# EAGLE library part POT_STEREO (library bao)
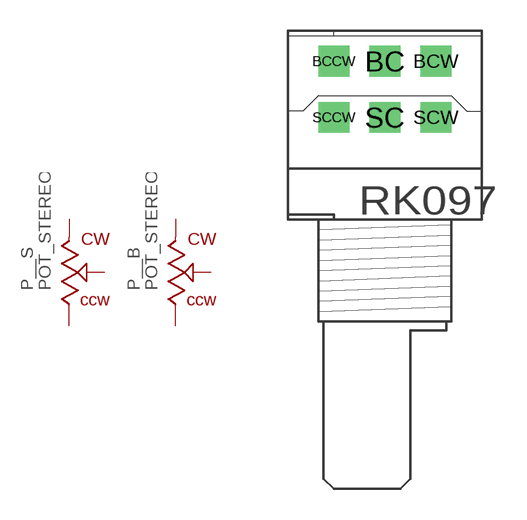
[diagram p4: symbol with the pads of POT_ALPS_RK097_ST_CENTERED; footprint POT_ALPS_RK097_ST_CENTERED]

Designator prefix P_; gates _S=POT _B=POT

## POT_STEREOST_H_B50K (NHPREF: 112; POPULATE: TRUE; VALUE: B50k)  [POT_ALPS_RK097_ST_CENTERED]
BC  _B:C  pas
BCCW  _B:CCW  pas
BCW  _B:CW  pas
SC  _S:C  pas
SCCW  _S:CCW  pas
SCW  _S:CW  pas

## POT_STEREOST_H_A50K (NHPREF: 110; POPULATE: TRUE; VALUE: A50k)  [POT_ALPS_RK097_ST_CENTERED]
Pads as for POT_ALPS_RK097_ST_CENTERED

## Footprint POT_ALPS_RK097_ST_CENTERED (pad centres in mm)
SCCW - SC - SCW -> Shaft side BCCW - BC - BCW -> Base side
drill 1 pad 1.422 square: BC 0,7.77; BCCW -2.5,7.77; BCW 2.5,7.77; SC 0,5.02; SCCW -2.5,5.02; SCW 2.5,5.02